# EAGLE library part ESP-12 (library ESP-12)
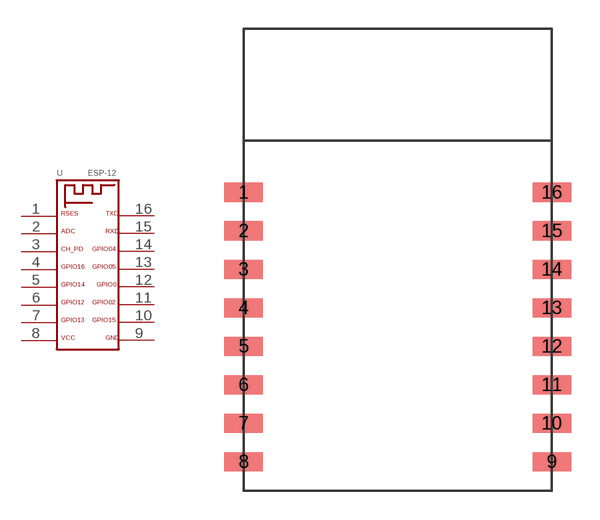
[diagram p0: symbol with the pads of ESP-12; footprint ESP-12]

Designator prefix U

## ESP-12  [ESP-12]
1  1
2  2
3  3
4  4
5  5
6  6
7  7
8  8
9  9
10  10
11  11
12  12
13  13
14  14
15  15
16  16

## Footprint ESP-12 (pad centres in mm)
smd 2 x 1: 1 0,15.5; 2 0,13.5; 3 0,11.5; 4 0,9.5; 5 0,7.5; 6 0,5.5; 7 0,3.5; 8 0,1.5; 9 16,1.5; 10 16,3.5; 11 16,5.5; 12 16,7.5; 13 16,9.5; 14 16,11.5; 15 16,13.5; 16 16,15.5